# Altium schematic symbol library CON5.SchLib: 1 symbol
Pins are listed as number, name and electrical type; pins without a type are passive.

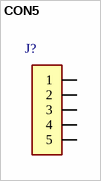
[diagram p0: symbol CON5]

## CON5
designator J?, comment 0532610571  (value not drawn)
ID: 0532610571; PDF: http://www.molex.com/pdm_docs/sd/532610671_sd.pdf; PRICE: 1.54000; BUY_LINK: http://www.digikey.com/product-detail/en/0532610571/WM7623CT-ND/699110
footprint MX-53261-0571
pins: 1, 2, 3, 4, 5